# Altium footprint library pds1-M.PcbLib: 2 footprints
Each footprint in its own frame and in the unit in brackets; x right, y up, seen from the top. Pads: shape width x height; smd on the part's side, far side on the other; paste and mask are expansions set on the pad; w line width, h text height; cw(c..) or ccw(c..) is an arc to the next point about the centre after c.
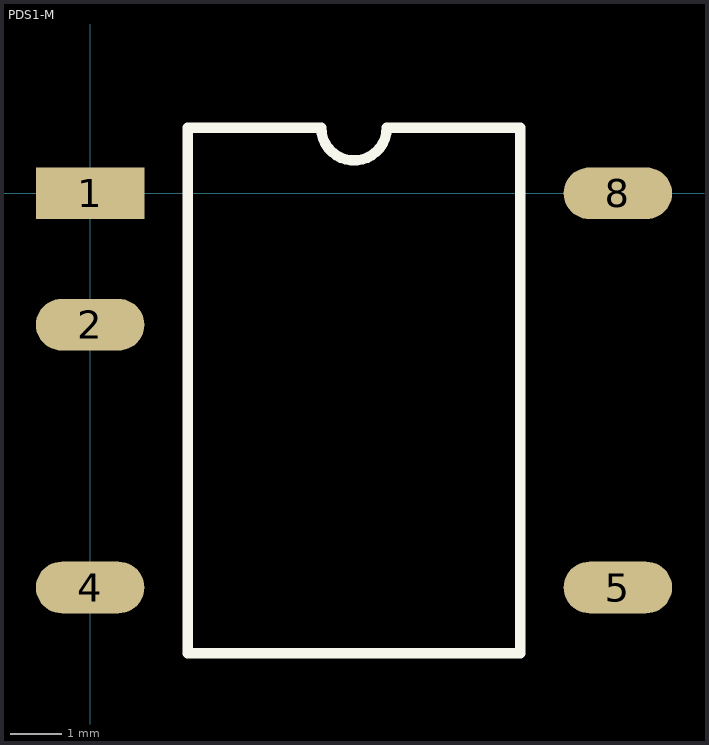
[diagram p0: the footprints below, top view; thin cyan lines are the x and y axes]

## PCBComponent_1 [mm]

## PDS1-M [mm]
pads (5):
  rect 2.1x1 smd: 1(0,0)
  oval 2.1x1 smd: 2(0,-2.54) 4(0,-7.62) 5(10.2,-7.62) 8(10.2,0)
Top Overlay:
  lines w0.2: 1.885,-8.89 1.885,1.27 4.465,1.27 ccw(c5.1,1.27) 5.735,1.27 8.315,1.27 8.315,-8.89 1.885,-8.89